# EAGLE library part ADS1015 (library nonolith)
12b I2C ADC: ADS1015
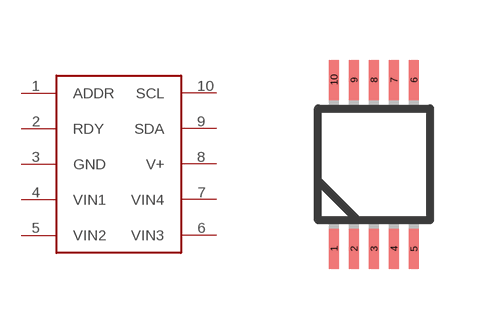
[diagram p3: symbol with the pads of MSOP10; footprint MSOP10]

Designator prefix -

## ADS1015  [MSOP10]
1  ADDR
2  RDY
3  GND
4  VIN1
5  VIN2
6  VIN3
7  VIN4
8  V+
9  SDA
10  SCL

## Footprint MSOP10 (pad centres in mm)
MSOP10 - .5mm
smd 0.25 x 1: 1 -1,-2.113; 2 -0.5,-2.113; 3 0,-2.113; 4 0.5,-2.113; 5 1,-2.113; 6 1,2.113; 7 0.5,2.113; 8 0,2.113; 9 -0.5,2.113; 10 -1,2.113